# Altium schematic symbol library Barrel - Power Connectors.SchLib: 1 symbol
Pins are listed as number, name and electrical type; pins without a type are passive.

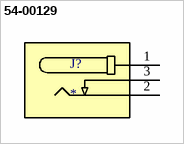
[diagram p0: symbol 54-00129]

## 54-00129
designator J?
CONN JACK R/A PCB 5.5X2.1MM; Supplier 1: Digi-Key; Supplier 2: Arrow Electronics; Supplier Part Number 1: 839-1512-ND; Supplier Part Number 2: 54-00129
footprint TENSILITY_54-00129
pins: 1, 2, 3